# EAGLE library part 0821-1X1T-32-F (library Labops_Lib_AH)
MagJack 1000BaseT | 1X1+1USB A | OG/Y | -40 to 85ºC | Tab Up | RoHS
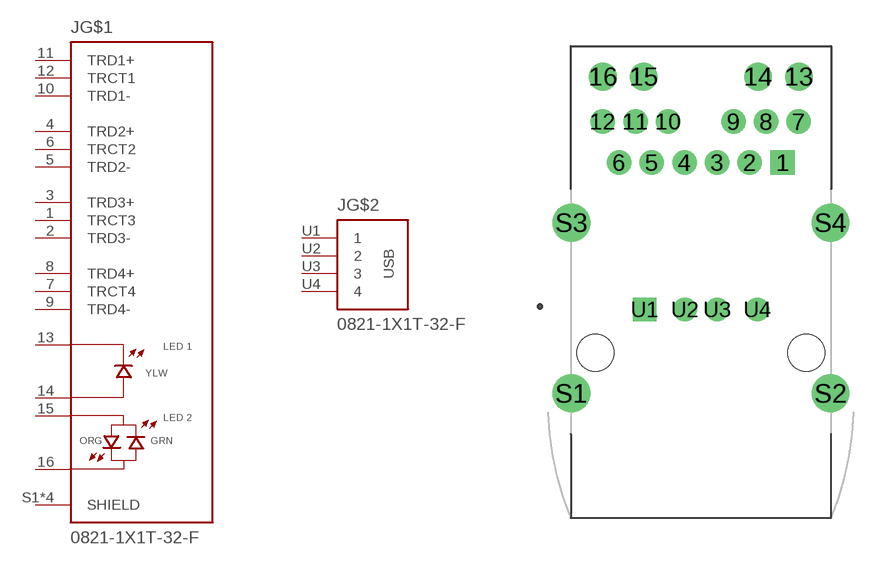
[diagram p52: symbol with the pads of BEL_0821-1X1T-32-F; footprint BEL_0821-1X1T-32-F]

Designator prefix J; gates G$1=0821-1X1T-32-F_PORT1 G$2=0821-1X1T-32-F_PORT2

## 0821-1X1T-32-F (DESCRIPTION: 1 Port RJ45 with USB A Magjack Connector Through Hole 10/100/1000 Base-T, AutoMDIX; DIGI-KEY_PART_NUMBER: 507-2444-ND; MF: Bel Fuse Inc.; MP: 0821-1X1T-32-F; PACKAGE: None; PURCHASE-URL: https://pricing.snapeda.com/search/part/0821-1X1T-32-F/?ref=eda)  [BEL_0821-1X1T-32-F]
1  G$1:TRCT3  pas
2  G$1:TRD3-  pas
3  G$1:TRD3+  pas
4  G$1:TRD2+  pas
5  G$1:TRD2-  pas
6  G$1:TRCT2  pas
7  G$1:TRCT4  pas
8  G$1:TRD4+  pas
9  G$1:TRD4-  pas
10  G$1:TRD1-  pas
11  G$1:TRD1+  pas
12  G$1:TRCT1  pas
13  G$1:13  pas
14  G$1:14  pas
15  G$1:15  pas
16  G$1:16  pas
S1  G$1:SHIELD  pas
S2  G$1:SHIELD  pas
S3  G$1:SHIELD  pas
S4  G$1:SHIELD  pas
U1  G$2:1  pas
U2  G$2:2  pas
U3  G$2:3  pas
U4  G$2:4  pas

## Footprint BEL_0821-1X1T-32-F (pad centres in mm)
drill 1.016 square: 1 5.067,14.351
drill 1.016: 2 3.035,14.351; 3 1.003,14.351; 4 -1.029,14.351; 5 -3.061,14.351; 6 -5.093,14.351; 7 6.083,16.891; 8 4.051,16.891; 9 2.019,16.891; 10 -2.045,16.891; 11 -4.077,16.891; 12 -6.109,16.891
drill 1.143: 13 6.096,19.685; 14 3.556,19.685; 15 -3.556,19.685; 16 -6.096,19.685
drill 1.575: S1 -8.065,0; S2 8.065,0; S3 -8.065,10.617; S4 8.065,10.617
drill 0.965 square: U1 -3.505,5.207
drill 0.965: U2 -1.003,5.207; U3 1.003,5.207; U4 3.505,5.207
hole 2.311 at -6.566,2.515
hole 2.311 at 6.566,2.515